# Altium schematic symbol library HUE.SchLib: 70 symbols
Pins are listed as number, name and electrical type; pins without a type are passive.

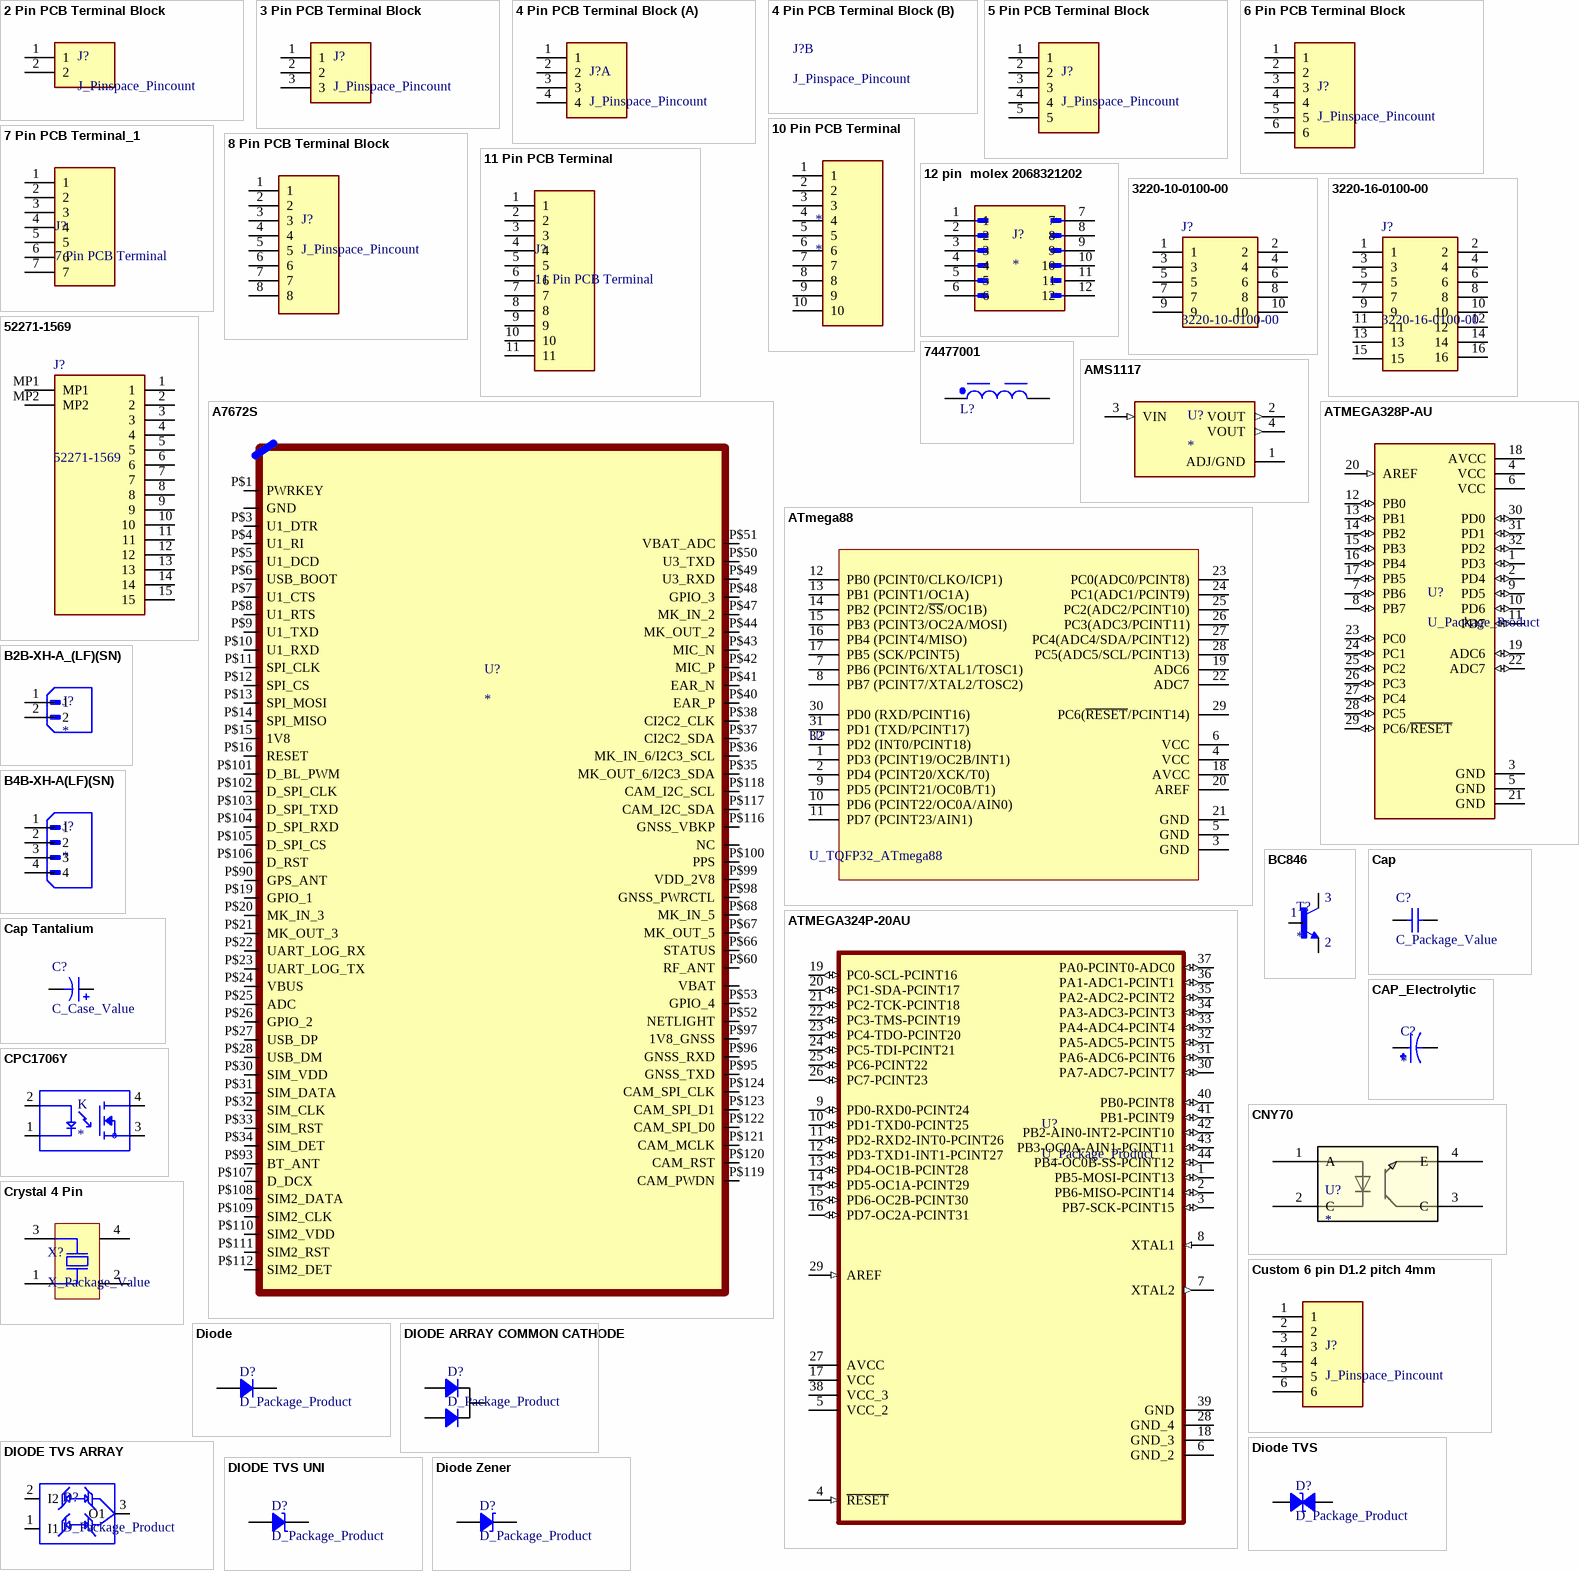
[diagram p0: symbols 2 Pin PCB Terminal Block to Diode Zener]

## 2 Pin PCB Terminal Block
designator J?, comment J_Pinspace_Pincount
MF: CUI Devices; MP: TBP02R1-381-02BE; CUI_purchase_URL: https://www.cuidevices.com/product/interconnect/connectors/terminal-blocks/tbp02r1-381-series?utm_source=snapeda.com&utm_medium=referral&utm_campaign=snapedaBOM; Purchase-URL: https://pricing.snapeda.com/search/part/TBP02R1-381-02BE/?ref=eda; Price: None; SnapEDA_Link: https://www.snapeda.com/parts/TBP02R1-381-02BE/CUI+Devices/view-part/?ref=snap; Check_prices: https://www.snapeda.com/parts/TBP02R1-381-02BE/CUI+Devices/view-part/?ref=eda; Package: None; Availability: In Stock; Value: *
footprint 2 Pin PCB TB 3.81
footprint 2 Pin PCB H 2.54
footprint 2 Pin PCB TB 5.08
footprint 2 Pin PCB STB 5.08
footprint DG142R-5.08-02P (10060000452)
pins: 1, 2

## 3 Pin PCB Terminal Block
designator J?, comment J_Pinspace_Pincount
MF: {'manufacturer': u'CUI'}; MP: TBP02R1-381-03BE; Price: None; Package: None; Value: *; Availability: Unavailable
footprint 3 Pin PCB TB 3.81
footprint 3 Pin PCB TB 5.08
footprint 3 Pin PCB STB 5.08
pins: 1, 2, 3

## 4 Pin PCB Terminal Block
designator J?, comment J_Pinspace_Pincount
MP: TBP02R1-381-04BE; Availability: Unavailable; Package: None; Price: None; Value: *
footprint 4 Pin PCB TB 3.81
footprint 4 Pin PCB H 2.54
footprint 4 Pin PCB TB 5.08
footprint 4 Pin PCB STB 5.08
part A pins: 1, 2, 3, 4

## 5 Pin PCB Terminal Block
designator J?, comment J_Pinspace_Pincount
MP: TBP02R1-381-05BE; Package: None; Price: None; Value: *; Availability: Unavailable
footprint 5 Pin PCB TB 3.81
footprint MOLEX_532610571
pins: 1, 2, 3, 4, 5

## 6 Pin PCB Terminal Block
designator J?, comment J_Pinspace_Pincount
MP: TBP02R1-381-06BE; Availability: Unavailable; Price: None; Value: *; Package: None
footprint 6 Pin PCB TB 3.81
footprint B6B-XH-A
pins: 1, 2, 3, 4, 5, 6

## 7 Pin PCB Terminal_1
designator J?, comment 7 Pin PCB Terminal
footprint 7 Pin KF2510 K2510 (KF2510 K2510)
pins: 1, 2, 3, 4, 5, 6, 7

## 8 Pin PCB Terminal Block
designator J?, comment J_Pinspace_Pincount
MP: TBP02R1-381-06BE; Availability: Unavailable; Price: None; Value: *; Package: None
footprint 8 PIN PCB TB 3.81
pins: 1, 2, 3, 4, 5, 6, 7, 8

## 10 Pin PCB Terminal
designator *
footprint 10 PIN PCB TB 3.81
pins: 1, 2, 3, 4, 5, 6, 7, 8, 9, 10

## 11 Pin PCB Terminal
designator J?
footprint 11 Pin KF2510 K2510
pins: 1, 2, 3, 4, 5, 6, 7, 8, 9, 10, 11

## 12 pin  molex 2068321202
designator J?
MP: 2068321202; Package: None; Value: *; Price: None; Availability: Unavailable
footprint MOLEX_2068321202
pins: 1, 2, 3, 4, 5, 6, 7, 8, 9, 10, 11, 12

## 3220-10-0100-00
designator J?
Conn Shrouded Header (4 Sides) HDR 10 POS 1.27mm Solder ST Thru-Hole; Manufacturer_Name: CNC Tech; Geometry.Height: 5.6mm; Arrow Part Number: 3220-10-0100-00; Arrow Price/Stock: https://www.arrow.com/en/products/3220-10-0100-00/cnc-tech-llc?region=nac; Manufacturer_Part_Number: 3220-10-0100-00; Datasheet Link: https://www.arrow.com/en/products/3220-10-0100-00/cnc-tech-llc?region=nac
footprint 322010010000
pins: 1, 2, 3, 4, 5, 6, 7, 8, 9, 10

## 3220-16-0100-00
designator J?
Conn Shrouded Header (4 Sides) HDR 16POS 1.27mm Solder ST Thru-Hole; Manufacturer_Name: CNC Tech; Manufacturer_Part_Number: 3220-10-0100-00; Geometry.Height: 5.6mm; Arrow Part Number: 3220-10-0100-00; Arrow Price/Stock: https://www.arrow.com/en/products/3220-10-0100-00/cnc-tech-llc?region=nac; Datasheet Link: https://www.arrow.com/en/products/3220-10-0100-00/cnc-tech-llc?region=nac
footprint 322016010000
pins: 1, 2, 3, 4, 5, 6, 7, 8, 9, 10, 11, 12, 13, 14, 15, 16

## 52271-1569
designator J?
FFC & FPC Connectors 1MM RA 15P SMT CONN ZIF AU BTM CON STYLE; Manufacturer_Name: Molex; Geometry.Height: 3mm; TME Electronic Components Part Number: *; TME Electronic Components Price/Stock: *; Manufacturer_Part_Number: 52271-1569; Datasheet Link: https://componentsearchengine.com/Datasheets/1/52271-1569.pdf
footprint 522711569
pins: 1, 2, 3, 4, 5, 6, 7, 8, 9, 10, 11, 12, 13, 14, 15, MP1, MP2

## 74477001
designator L?, comment 1.2uH, 13.5A  (value not drawn)
WE-PD SMT Power Inductor, size 1280, 1.2uH, 13.5A, 7mOhm; Manufacturer Part Number: 74477001; Manufacturer: Wurth Elektronik; Case/Size Code: 1280; DC Resistance: 4.6mOhm; Saturation Current: 21A; Self Resonant Frequency: 45MHz; Type: Standard; Category: Power Inductors; Match Code: WE-PD; ComponentLink1Description: Website Link; ComponentLink1URL: https://www.we-online.com/redexpert/article/74477001?ad; ComponentLink2Description: Datasheet Link; ComponentLink2URL: https://www.we-online.com/redexpert/spec/74477001?ad; Mount: Surface Mount; Operating Temperature Max: 125°C; Operating Temperature Min: -40°C; Packaging: Tape and Reel; Length: 12mm; Width: 12mm; Height: 8mm; DC Resistance Max: 7mOhm; Inductance: 1.2uH; Rated Current: 13.5A
simulation model 1280_74477001_1.2u
footprint WE-PD_1210 (SMT Shielded Power Inductor, 2-leads, body 12x12mm)
pins: 1, 2

## A7672S
designator U?
LTE Cat 1 Module On Module 10Mbps 700MHz/800MHz/900MHz/1700MHz/1800MHz/1900MHz/2100MHz 33dBm 3.4V to 4.2V -109dBm; MF: SIMCom; MP: A7672S; Check_prices: https://www.snapeda.com/parts/A7672S/SIMCom/view-part/?ref=eda; Value: *; Availability: Not in stock; Price: None; Package: Package; SnapEDA_Link: https://www.snapeda.com/parts/A7672S/SIMCom/view-part/?ref=snap
footprint A7672S
pins: P$1 PWRKEY (power), P$2 GND (power), P$3 U1_DTR (io), P$4 U1_RI (io), P$5 U1_DCD (io), P$6 USB_BOOT (io), P$7 U1_CTS (io), P$8 U1_RTS (io), P$9 U1_TXD (io), P$10 U1_RXD (io), P$11 SPI_CLK (io), P$12 SPI_CS (io), P$13 SPI_MOSI (io), P$14 SPI_MISO (io), P$15 1V8 (power), P$16 RESET (power), P$17 GND (power), P$18 GND (power), P$19 GPIO_1 (io), P$20 MK_IN_3 (io), P$21 MK_OUT_3 (io), P$22 UART_LOG_RX (io), P$23 UART_LOG_TX (io), P$24 VBUS (io), P$25 ADC (io), P$26 GPIO_2 (io), P$27 USB_DP (io), P$28 USB_DM (io), P$29 GND (power), P$30 SIM_VDD (io), P$31 SIM_DATA (io), P$32 SIM_CLK (io), P$33 SIM_RST (io), P$34 SIM_DET (io), P$35 MK_OUT_6/I2C3_SDA (io), P$36 MK_IN_6/I2C3_SCL (io), P$37 CI2C2_SDA (io), P$38 CI2C2_CLK (io), P$39 GND (power), P$40 EAR_P (io), P$41 EAR_N (io), P$42 MIC_P (io), P$43 MIC_N (io), P$44 MK_OUT_2 (io), P$45 GND (power), P$46 GND (power), P$47 MK_IN_2 (io), P$48 GPIO_3 (io), P$49 U3_RXD (io), P$50 U3_TXD (io), P$51 VBAT_ADC (io), P$52 NETLIGHT (io), P$53 GPIO_4 (io), P$54 GND (power), P$55 VBAT (io), P$56 VBAT (io), P$57 VBAT (io), P$58 GND (power), P$59 GND (power), P$60 RF_ANT (io), P$61 GND (power), P$62 GND (power), P$63 GND (power), P$64 GND (power), P$65 GND (power), P$66 STATUS (io), P$67 MK_OUT_5 (io), P$68 MK_IN_5 (io), P$69 GND (power), P$70 GND (power), P$71 GND (power), P$72 GND (power), P$73 GND (power), P$74 GND (power), P$75 GND (power), P$76 GND (power), P$77 GND (power), P$78 GND (power), P$79 GND (power), P$80 GND (power), P$81 GND (power), P$82 GND (power), P$83 GND (power), P$84 GND (power), P$85 GND (power), P$86 GND (power), P$87 GND (power), P$88 GND (power), P$89 GND (power), P$90 GPS_ANT (io), P$91 GND (power), P$92 GND (power), P$93 BT_ANT (io), P$94 GND (power), P$95 GNSS_TXD (io), P$96 GNSS_RXD (io), P$97 1V8_GNSS (io), P$98 GNSS_PWRCTL (io), P$99 VDD_2V8 (io), P$100 PPS (io), P$101 D_BL_PWM (io), P$102 D_SPI_CLK (io), P$103 D_SPI_TXD (io), P$104 D_SPI_RXD (io), P$105 D_SPI_CS (io), P$106 D_RST (io), P$107 D_DCX (io), P$108 SIM2_DATA (io), P$109 SIM2_CLK (io), P$110 SIM2_VDD (io), P$111 SIM2_RST (io), P$112 SIM2_DET (io), P$113 NC (io), P$114 NC (io), P$115 NC (io), P$116 GNSS_VBKP (io), P$117 CAM_I2C_SDA (io), P$118 CAM_I2C_SCL (io), P$119 CAM_PWDN (io), P$120 CAM_RST (io), P$121 CAM_MCLK (io), P$122 CAM_SPI_D0 (io), P$123 CAM_SPI_D1 (io), P$124 CAM_SPI_CLK (io)

## AMS1117
designator U?
1A LOW DROPOUT VOLTAGE REGULATOR SOT-223; MP: AMS1117; MF: Advanced Monolithic Systems; Price: None; Availability: Not in stock; Package: SOT-223 Seeed Technology; Value: *; SnapEDA_Link: https://www.snapeda.com/parts/AMS1117/Advanced+Monolithic+Systems/view-part/?ref=snap; Check_prices: https://www.snapeda.com/parts/AMS1117/Advanced+Monolithic+Systems/view-part/?ref=eda
footprint SOT223
pins: 1 ADJ/GND (power), 2 VOUT (out), 3 VIN (in), 4 VOUT (out)

## ATmega88
designator U?, comment U_TQFP32_ATmega88
8-bit  Microcontroller  with 8K  Bytes In-System  Programmable  Flash
footprint TQFP32
pins: 1 PD3 (PCINT19/OC2B/INT1), 2 PD4 (PCINT20/XCK/T0), 3 GND, 4 VCC, 5 GND, 6 VCC, 7 PB6 (PCINT6/XTAL1/TOSC1), 8 PB7 (PCINT7/XTAL2/TOSC2), 9 PD5 (PCINT21/OC0B/T1), 10 PD6 (PCINT22/OC0A/AIN0), 11 PD7 (PCINT23/AIN1), 12 PB0 (PCINT0/CLKO/ICP1), 13 PB1 (PCINT1/OC1A), 14 PB2 (PCINT2/~{SS}/OC1B), 15 PB3 (PCINT3/OC2A/MOSI), 16 PB4 (PCINT4/MISO), 17 PB5 (SCK/PCINT5), 18 AVCC, 19 ADC6, 20 AREF, 21 GND, 22 ADC7, 23 PC0(ADC0/PCINT8), 24 PC1(ADC1/PCINT9), 25 PC2(ADC2/PCINT10), 26 PC3(ADC3/PCINT11), 27 PC4(ADC4/SDA/PCINT12), 28 PC5(ADC5/SCL/PCINT13), 29 PC6(~{RESET}/PCINT14), 30 PD0 (RXD/PCINT16), 31 PD1 (TXD/PCINT17), 32 PD2 (INT0/PCINT18)

## ATMEGA324P-20AU
designator U?, comment U_Package_Product
AVR AVRÂ® ATmega Microcontroller IC 8-Bit 20MHz 32KB _16K x 16_ FLASH 44-TQFP _10x10_; MF: Microchip; MP: ATMEGA324P-20AU; Availability: Unavailable; Package: TQFP-44 Microchip; Price: None; SnapEDA_Link: https://www.snapeda.com/parts/ATMEGA324P-20AU/Microchip/view-part/696895/?ref=snap; Value: *
footprint TQFP44
pins: 1 PB5-MOSI-PCINT13 (io), 2 PB6-MISO-PCINT14 (io), 3 PB7-SCK-PCINT15 (io), 4 ~{RESET} (in), 5 VCC_2 (power), 6 GND_2, 7 XTAL2 (out), 8 XTAL1 (in), 9 PD0-RXD0-PCINT24 (io), 10 PD1-TXD0-PCINT25 (io), 11 PD2-RXD2-INT0-PCINT26 (io), 12 PD3-TXD1-INT1-PCINT27 (io), 13 PD4-OC1B-PCINT28 (io), 14 PD5-OC1A-PCINT29 (io), 15 PD6-OC2B-PCINT30 (io), 16 PD7-OC2A-PCINT31 (io), 17 VCC (power), 18 GND_3, 19 PC0-SCL-PCINT16 (io), 20 PC1-SDA-PCINT17 (io), 21 PC2-TCK-PCINT18 (io), 22 PC3-TMS-PCINT19 (io), 23 PC4-TDO-PCINT20 (io), 24 PC5-TDI-PCINT21 (io), 25 PC6-PCINT22 (io), 26 PC7-PCINT23 (io), 27 AVCC (power), 28 GND_4, 29 AREF (in), 30 PA7-ADC7-PCINT7 (io), 31 PA6-ADC6-PCINT6 (io), 32 PA5-ADC5-PCINT5 (io), 33 PA4-ADC4-PCINT4 (io), 34 PA3-ADC3-PCINT3 (io), 35 PA2-ADC2-PCINT2 (io), 36 PA1-ADC1-PCINT1 (io), 37 PA0-PCINT0-ADC0 (io), 38 VCC_3 (power), 39 GND, 40 PB0-PCINT8 (io), 41 PB1-PCINT9 (io), 42 PB2-AIN0-INT2-PCINT10 (io), 43 PB3-OC0A-AIN1-PCINT11 (io), 44 PB4-OC0B-SS-PCINT12 (io)

## ATMEGA328P-AU
designator U?, comment U_Package_Product
AVR AVRÂ® ATmega Microcontroller IC 8-Bit 20MHz 32KB (16K x 16) FLASH 32-TQFP (7x7); MP: ATMEGA328P-AU; MF: Microchip Technology; Value: *; SnapEDA_Link: https://www.snapeda.com/parts/ATMEGA328P-AU/Microchip/view-part/?ref=snap; Purchase-URL: https://pricing.snapeda.com/search/part/ATMEGA328P-AU/?ref=eda; Check_prices: https://www.snapeda.com/parts/ATMEGA328P-AU/Microchip/view-part/?ref=eda; Availability: In Stock; Price: None; Package: TQFP-32 Microchip
footprint TQFP32
pins: 1 PD3 (io), 2 PD4 (io), 3 GND (power), 4 VCC (power), 5 GND (power), 6 VCC (power), 7 PB6 (io), 8 PB7 (io), 9 PD5 (io), 10 PD6 (io), 11 PD7 (io), 12 PB0 (io), 13 PB1 (io), 14 PB2 (io), 15 PB3 (io), 16 PB4 (io), 17 PB5 (io), 18 AVCC (power), 19 ADC6 (io), 20 AREF (in), 21 GND (power), 22 ADC7 (io), 23 PC0 (io), 24 PC1 (io), 25 PC2 (io), 26 PC3 (io), 27 PC4 (io), 28 PC5 (io), 29 PC6/~{RESET} (io), 30 PD0 (io), 31 PD1 (io), 32 PD2 (io)

## B2B-XH-A_(LF)(SN)
designator J?
Connector Header Through Hole 2 position 0.098 (2.50mm); MF: JST Sales; MP: B2B-XH-A (LF)(SN); SnapEDA_Link: https://www.snapeda.com/parts/B2B-XH-A%20(LF)(SN)/JST+Sales+America+Inc./view-part/?ref=snap; Package: None; Value: *; Check_prices: https://www.snapeda.com/parts/B2B-XH-A%20(LF)(SN)/JST+Sales+America+Inc./view-part/?ref=eda
footprint JST_B2B-XH-A_(LF)(SN)
footprint B3B-XH-AMLFSN
pins: 1, 2

## B4B-XH-A(LF)(SN)
designator J?
Connector Header Through Hole 4 position 0.098 (2.50mm); MF: JST Sales; MP: B4B-XH-A(LF)(SN); SnapEDA_Link: https://www.snapeda.com/parts/B4B-XH-A(LF)(SN)/JST+Sales+America+Inc./view-part/?ref=snap; Package: None; Value: *; Check_prices: https://www.snapeda.com/parts/B4B-XH-A(LF)(SN)/JST+Sales+America+Inc./view-part/?ref=eda
footprint B4B-XH-A(LF)(SN)
pins: 1, 2, 3, 4

## BC846
designator T?
TRANSISTOR, NPN, 0.1A, 65V, SOT23; Transistor Polarity:NPN; Collector Emitter Voltage V(br)ceo:65V; Transition Frequency Typ ft:100MHz; Power Dissipation Pd:250mW; DC Collector Current:100mA; DC Current Gain hFE:110; Operating Temperature Min:-55Â°C; Operating Temperature Max:150Â°C; Transistor Case Style:SOT-23; No. of Pins:3; DC Current Gain Hfe Max:450; Operating Temperature Range:-55Â°C to +150Â°C; MP: BC846; MF: ON Semiconductor; Value: *; SnapEDA_Link: https://www.snapeda.com/parts/BC846/Onsemi/view-part/?ref=snap; Availability: In Stock; Purchase-URL: https://pricing.snapeda.com/search/part/BC846/?ref=eda; Package: SOT-23-3 Panasonic Electronic; Price: None; Check_prices: https://www.snapeda.com/parts/BC846/Onsemi/view-part/?ref=eda
footprint SOT23
pins: 1 B, 2 E, 3 C

## Cap
designator C?, comment C_Package_Value
Capacitor; Published: 8-Jun-2000; LatestRevisionDate: 17-Jul-2002; LatestRevisionNote: Re-released for DXP Platform.; Publisher: Altium Limited
footprint CAP 0603 (Ceramic Capacitor 0603 (1608))
footprint CAP 0805 (Ceramic Capacitor 1206  (3216))
footprint CAP 1206 (Ceramic Capacitor 1206  (3216))
footprint CAP 1210 (Ceramic Capacitor 1210 (3225))
pins: 1, 2
1 alternate drawing of the same symbol

## Cap Tantalium
designator C?, comment C_Case_Value
Capacitor Tantalium; Published: 8-Jun-2000; LatestRevisionDate: 17-Jul-2002; LatestRevisionNote: Re-released for DXP Platform.; Publisher: Altium Limited
footprint CAP 1411 TAN
footprint CAP 2312 TAN (Tantalum Capacitor 2312 (6032-28))
footprint CAP 2917 TAN (Tantalum Capacitor 2917 (7343-43))
pins: 1, 2
1 alternate drawing of the same symbol

## CAP_Electrolytic
designator C?
Electrolytic capacitor SMD 22 ÂµF 50 V 20 % (Ã˜) 6.3 mm Panasonic EEE-FK1H220P 1 pc(s); MP: EEEFK1H220P; Availability: No availability data; Package: RADIAL-2 Panasonic; Value: *; MF: Panasonic; Check_prices: https://www.snapeda.com/parts/EEEFK1H220P/Panasonic/view-part/2781915/?ref=eda; SnapEDA_Link: https://www.snapeda.com/parts/EEEFK1H220P/Panasonic/view-part/2781915/?ref=snap; Price: None
footprint CAP_6.3mm
pins: 1, 2

## CNY70
designator U?
For optoelectronic sensing and switching (non-contact operation), e.g. colour mark detection, encoder disc reading, control of model-making of iron-and car racing tracks. High photo-sensitivity.; MP: CNY 70; MF: Vishay Intertechnology; Availability: In Stock; Purchase-URL: https://pricing.snapeda.com/search/part/CNY 70/?ref=eda; SnapEDA_Link: https://www.snapeda.com/parts/CNY%2070/Vishay/view-part/?ref=snap; Price: None; Value: *; Check_prices: https://www.snapeda.com/parts/CNY%2070/Vishay/view-part/?ref=eda; Package: None
footprint CNY70
pins: 1 A, 2 C, 3 C, 4 E

## CPC1706Y
designator K
Solid State SPST-NO _1 Form A_ 8-SIP, 4 Leads; MP: CPC1706Y; MF: IXYS Integrated; Value: *; Package: SIP-4 IXYS; SnapEDA_Link: https://www.snapeda.com/parts/CPC1706Y/IXYS%20Integrated%20Circuits%20Division/view-part/681572/?ref=snap; Price: None; Availability: Unavailable
footprint RELAY_CPC1706Y
pins: 1, 2, 3, 4

## Crystal 4 Pin
designator X?, comment X_Package_Value
Crystal 4 Pin
footprint Crystal 3.2x2.5 (3.2mmx2.5mm 4 Pin)
footprint Crystal 2016
pins: 1 OSC1, 2 NC, 3 OSC2, 4 NC

## Custom 6 pin D1.2 pitch 4mm
designator J?, comment J_Pinspace_Pincount
Custom 6 pin Diameter 1.2mm pitch 4mm; MP: TBP02R1-381-06BE; Availability: Unavailable; Price: None; Value: *; Package: None
footprint 6 Pin Custom d1.2mm Pitch 4mm
pins: 1, 2, 3, 4, 5, 6

## Diode
designator D?, comment D_Package_Product
Rectifier Diode
footprint DO214AA SMB (Molded Diode, 2-Leads, Body 4.31x3.62mm, IPC Medium Density)
footprint DO214AB SMC (Molded Diode, 2-Leads, Body 6.85x5.90mm, IPC Medium Density)
footprint DO214AC SMA (Molded Diode, 2-Leads, Body 4.30x2.60mm, IPC Medium Density)
footprint POWERDI®123
footprint SOD123F (SODFL, 2-Leads, Body 1.60x3.50mm, IPC Medium Density)
footprint SOD-123 (SOD, 2-Leads, Body 1.55x3.70mm, IPC Medium Density)
footprint SOD-123W (SODFL, 2-Leads, Body 1.60x3.50mm, IPC Medium Density)
footprint SOD323 (SOD, 2-Leads, Body 1.25x2.50mm, IPC Medium Density)
footprint SOD323F (SODFL, 2-Leads, Body 1.25x2.50mm, IPC Medium Density)
footprint SOD-523 (Molded Diode, 2-Leads, Body 1.60x0.80mm, IPC Medium Density)
footprint SOD523F (SODFL, 2-Leads, Body 0.80x1.60mm, IPC Medium Density)
pins: 1, 2

## DIODE ARRAY COMMON CATHODE
designator D?, comment D_Package_Product
Rectifier Diode
pins: 1, 2, 3

## Diode TVS
designator D?, comment D_Package_Product
Zener Diode
footprint DO214AA SMB (Molded Diode, 2-Leads, Body 4.31x3.62mm, IPC Medium Density)
footprint DO214AC SMA (Molded Diode, 2-Leads, Body 4.30x2.60mm, IPC Medium Density)
footprint DO214AB SMC (Molded Diode, 2-Leads, Body 6.85x5.90mm, IPC Medium Density)
footprint SOD123F (SODFL, 2-Leads, Body 1.60x3.50mm, IPC Medium Density)
footprint SOD-123 (SOD, 2-Leads, Body 1.55x3.70mm, IPC Medium Density)
footprint SOD323 (SOD, 2-Leads, Body 1.25x2.50mm, IPC Medium Density)
footprint SOD323F (SODFL, 2-Leads, Body 1.25x2.50mm, IPC Medium Density)
footprint SOD-523 (Molded Diode, 2-Leads, Body 1.60x0.80mm, IPC Medium Density)
footprint SOD523F (SODFL, 2-Leads, Body 0.80x1.60mm, IPC Medium Density)
footprint POWERDI®123
footprint SOD-123W (SODFL, 2-Leads, Body 1.60x3.50mm, IPC Medium Density)
pins: 1, 2

## DIODE TVS ARRAY
designator D?, comment D_Package_Product
TVS Diode Array; MP: SM712; MF: Semtech; Price: None; SnapEDA_Link: https://www.snapeda.com/parts/SM712/Semtech/view-part/4219095/?ref=snap; Availability: Unavailable; Value: *; Package: SOT-23 Semtech
footprint SOT23
pins: 1 I1, 2 I2, 3 O1

## DIODE TVS UNI
designator D?, comment D_Package_Product
Rectifier Diode
footprint DO214AC SMA (Molded Diode, 2-Leads, Body 4.30x2.60mm, IPC Medium Density)
footprint DO214AA SMB (Molded Diode, 2-Leads, Body 4.31x3.62mm, IPC Medium Density)
footprint DO214AB SMC (Molded Diode, 2-Leads, Body 6.85x5.90mm, IPC Medium Density)
footprint POWERDI®123
footprint SOD-123 (SOD, 2-Leads, Body 1.55x3.70mm, IPC Medium Density)
footprint SOD-123W (SODFL, 2-Leads, Body 1.60x3.50mm, IPC Medium Density)
footprint SOD123F (SODFL, 2-Leads, Body 1.60x3.50mm, IPC Medium Density)
footprint SOD323 (SOD, 2-Leads, Body 1.25x2.50mm, IPC Medium Density)
footprint SOD323F (SODFL, 2-Leads, Body 1.25x2.50mm, IPC Medium Density)
footprint SOD-523 (Molded Diode, 2-Leads, Body 1.60x0.80mm, IPC Medium Density)
footprint SOD523F (SODFL, 2-Leads, Body 0.80x1.60mm, IPC Medium Density)
pins: 1, 2

## Diode Zener
designator D?, comment D_Package_Product
Zener Diode
footprint DO214AC SMA (Molded Diode, 2-Leads, Body 4.30x2.60mm, IPC Medium Density)
footprint DO214AA SMB (Molded Diode, 2-Leads, Body 4.31x3.62mm, IPC Medium Density)
footprint DO214AB SMC (Molded Diode, 2-Leads, Body 6.85x5.90mm, IPC Medium Density)
footprint POWERDI®123
footprint SOD-123 (SOD, 2-Leads, Body 1.55x3.70mm, IPC Medium Density)
footprint SOD-123W (SODFL, 2-Leads, Body 1.60x3.50mm, IPC Medium Density)
footprint SOD123F (SODFL, 2-Leads, Body 1.60x3.50mm, IPC Medium Density)
footprint SOD323 (SOD, 2-Leads, Body 1.25x2.50mm, IPC Medium Density)
footprint SOD323F (SODFL, 2-Leads, Body 1.25x2.50mm, IPC Medium Density)
footprint SOD-523 (Molded Diode, 2-Leads, Body 1.60x0.80mm, IPC Medium Density)
footprint SOD523F (SODFL, 2-Leads, Body 0.80x1.60mm, IPC Medium Density)
pins: 1, 2

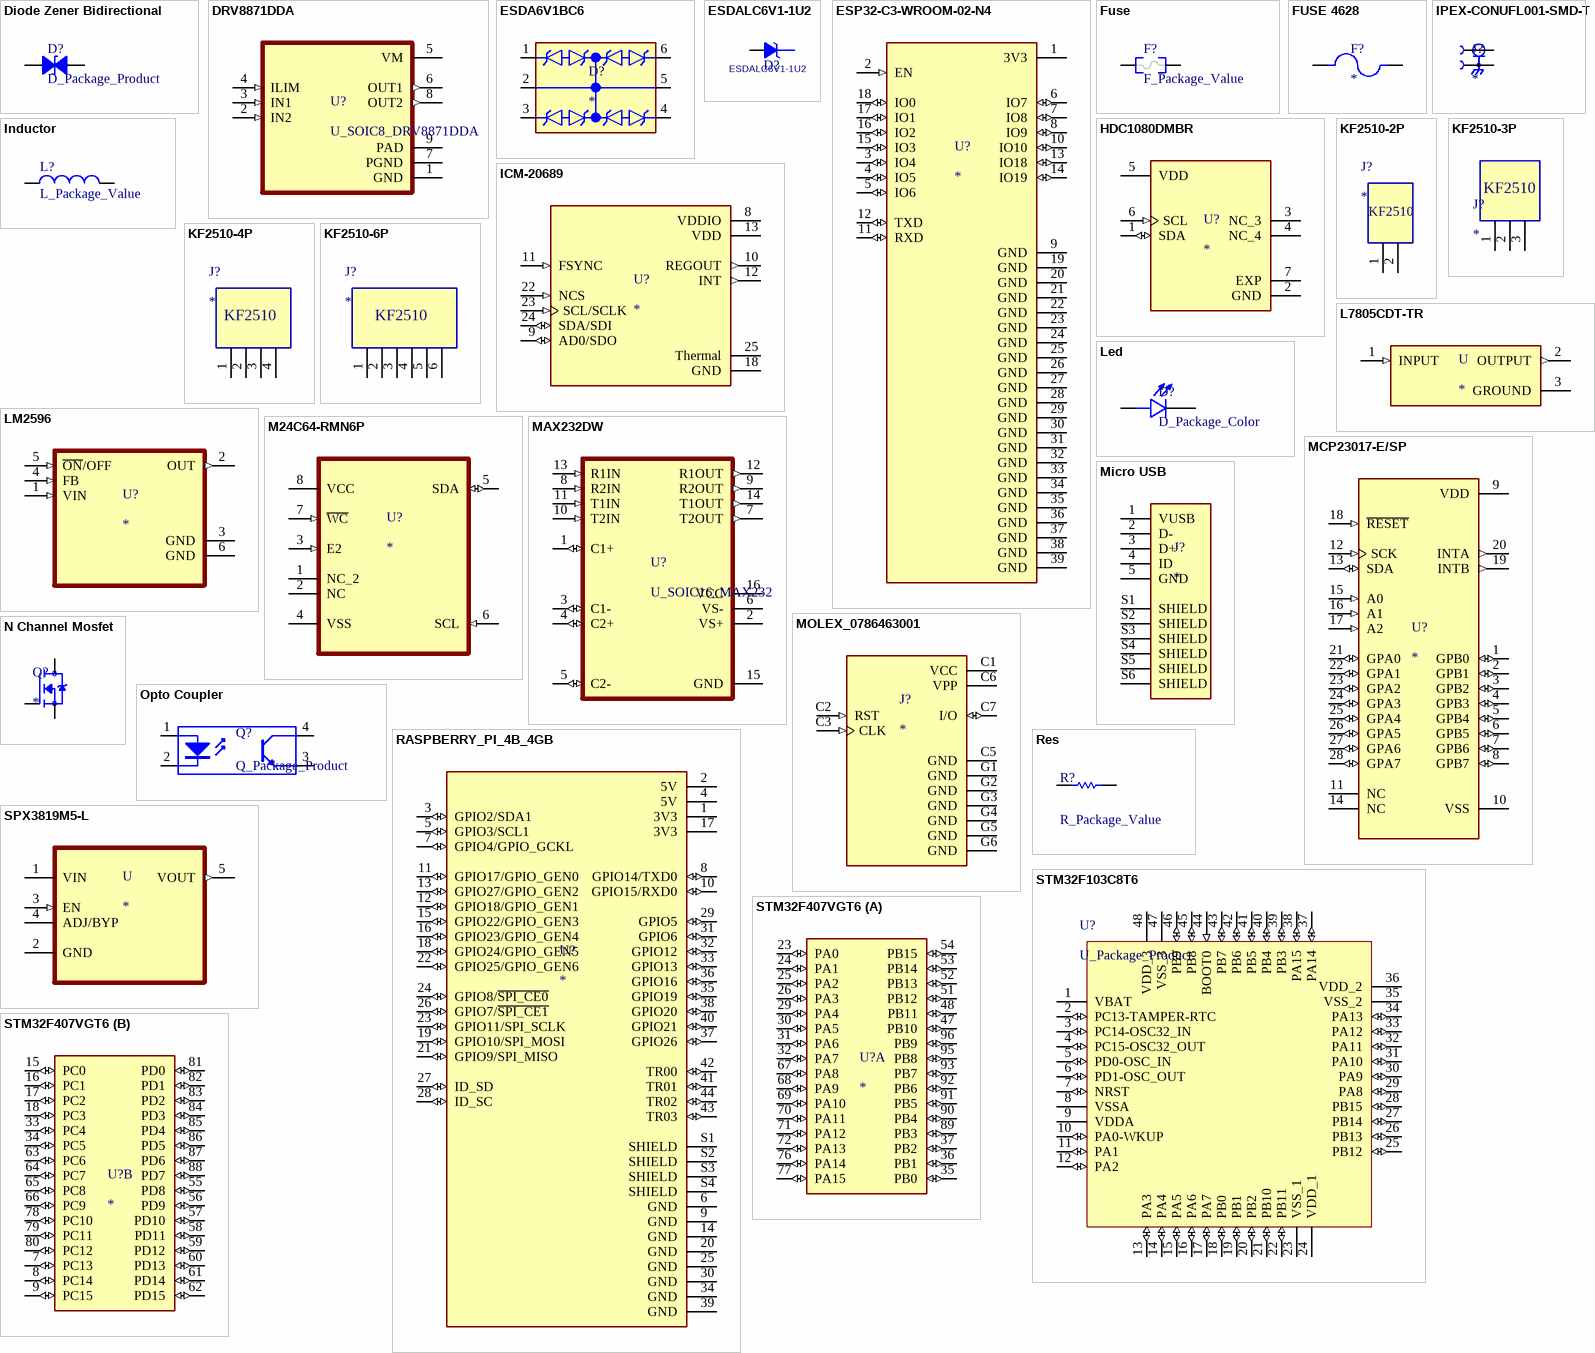
[diagram p1: symbols Diode Zener Bidirectional to STM32F407VGT6]

## Diode Zener Bidirectional
designator D?, comment D_Package_Product
Bidirectional Zener Diode
footprint DO214AC SMA (Molded Diode, 2-Leads, Body 4.30x2.60mm, IPC Medium Density)
footprint DO214AA SMB (Molded Diode, 2-Leads, Body 4.31x3.62mm, IPC Medium Density)
footprint DO214AB SMC (Molded Diode, 2-Leads, Body 6.85x5.90mm, IPC Medium Density)
footprint POWERDI®123
footprint SOD-123 (SOD, 2-Leads, Body 1.55x3.70mm, IPC Medium Density)
footprint SOD-123W (SODFL, 2-Leads, Body 1.60x3.50mm, IPC Medium Density)
footprint SOD123F (SODFL, 2-Leads, Body 1.60x3.50mm, IPC Medium Density)
footprint SOD323 (SOD, 2-Leads, Body 1.25x2.50mm, IPC Medium Density)
footprint SOD323F (SODFL, 2-Leads, Body 1.25x2.50mm, IPC Medium Density)
footprint SOD-523 (Molded Diode, 2-Leads, Body 1.60x0.80mm, IPC Medium Density)
footprint SOD523F (SODFL, 2-Leads, Body 0.80x1.60mm, IPC Medium Density)
pins: 1, 2

## DRV8871DDA
designator U?, comment U_SOIC8_DRV8871DDA
45-V, 3.6-A H-bridge motor driver with integrated current sensing 8-SO PowerPAD -40 to 125; MF: Texas Instruments; Mouser-Purchase-URL: https://snapeda.com/shop?store=Mouser&id=547750; SnapEDA_Link: https://www.snapeda.com/parts/DRV8871DDA/Texas%20Instruments/view-part/547750/?ref=snap; DigiKey-Purchase-URL: https://snapeda.com/shop?store=DigiKey&id=547750; Arrow_Electronics-Purchase-URL: https://snapeda.com/shop?store=Arrow+Electronics&id=547750; MP: DRV8871DDA; Texas_Instruments-Purchase-URL: https://snapeda.com/shop?store=Texas+Instruments&id=547750; Availability: Good; Price: None; Value: *; Package: HSOIC-8 Texas Instruments; BuyPart: https://www.snapeda.com/parts/DRV8871DDA/Texas%20Instruments/view-part/547750/?ref=eda
footprint SOIC8
pins: 1 GND (power), 2 IN2 (in), 3 IN1 (in), 4 ILIM (in), 5 VM (power), 6 OUT1 (out), 7 PGND (power), 8 OUT2 (out), 9 PAD (power)

## ESDA6V1BC6
designator D?
- Clamp - Ipp Tvs Diode Surface Mount SOT-23-6; MP: ESDA6V1BC6; MF: STMicroelectronics; Check_prices: https://www.snapeda.com/parts/ESDA6V1BC6/STMicroelectronics/view-part/?ref=eda; Price: None; Purchase-URL: https://pricing.snapeda.com/search/part/ESDA6V1BC6/?ref=eda; SnapEDA_Link: https://www.snapeda.com/parts/ESDA6V1BC6/STMicroelectronics/view-part/?ref=snap; Availability: In Stock; Package: SOT-23-6 STMicroelectronics; Value: *
footprint SOT23-6
pins: 1 C1, 2 CC1, 3 C2, 4 C3, 5 CC2, 6 C4

## ESDALC6V1-1U2
designator D?
footprint ST_ST0201
pins: 1 K, 2 A

## ESP32-C3-WROOM-02-N4
designator U?
WiFi Modules (802.11) (Engineering Samples) SMD module, ESP32-C3, 4MB SPI flash, PCB antenna, -40 C +85 C; MF: Espressif Systems; MP: ESP32-C3-WROOM-02-N4; Value: *; SnapEDA_Link: https://www.snapeda.com/parts/ESP32-C3-WROOM-02-N4/Espressif+Systems/view-part/?ref=snap; Purchase-URL: https://pricing.snapeda.com/search/part/ESP32-C3-WROOM-02-N4/?ref=eda; Availability: In Stock; Price: None; Package: Package; Check_prices: https://www.snapeda.com/parts/ESP32-C3-WROOM-02-N4/Espressif+Systems/view-part/?ref=eda
footprint ESP32-C3-WROOM-02-H4
pins: 1 3V3 (power), 2 EN (in), 3 IO4 (io), 4 IO5 (io), 5 IO6 (io), 6 IO7 (io), 7 IO8 (io), 8 IO9 (io), 9 GND (power), 10 IO10 (io), 11 RXD (io), 12 TXD (io), 13 IO18 (io), 14 IO19 (io), 15 IO3 (io), 16 IO2 (io), 17 IO1 (io), 18 IO0 (io), 19 GND (power), 20 GND (power), 21 GND (power), 22 GND (power), 23 GND (power), 24 GND (power), 25 GND (power), 26 GND (power), 27 GND (power), 28 GND (power), 29 GND (power), 30 GND (power), 31 GND (power), 32 GND (power), 33 GND (power), 34 GND (power), 35 GND (power), 36 GND (power), 37 GND (power), 38 GND (power), 39 GND (power)

## Fuse
designator F?, comment F_Package_Value
footprint FUSE 0402_1005 0.35MM (Chip Fuse 2A AC 32V DC, 2 Leads, Body 1.00x0.52mm)
footprint FUSE 0402_1005 0.51MM (Chip Fuse 1A AC 24V DC, 2 Leads, Body 1.00x0.51mm)
footprint FUSE 0603_1608 0.5MM (Chip Fuse 1.5A AC 5V DC, 2-Leads, Body 1.54x0.85mm)
footprint FUSE 0603_1608 0.8MM (Chip Fuse 1.5A AC 32V DC, 2-Leads, Body 1.60x0.80mm, IPC Medium Density)
footprint FUSE 1206_3216 0.6MM (Chip Fuse 1.5A AC 63V DC, 2-Leads, Body 3.10x1.55mm, IPC Medium Densitym)
footprint FUSE 1206_3216 0.9MM (Chip Fuse 200mA 125V AC 125V DC, 2-Leads, Body 3.18x1.52mm, IPC Medium Density)
pins: 1, 2

## FUSE 4628
designator F?
5mm Slim Line Fuse holder; MP: 4628; MF: Keystone; Check_prices: https://www.snapeda.com/parts/4628/Keystone/view-part/?ref=eda; Value: *; Availability: In Stock; Price: None; Package: None; SnapEDA_Link: https://www.snapeda.com/parts/4628/Keystone/view-part/?ref=snap; Purchase-URL: https://pricing.snapeda.com/search/part/4628/?ref=eda
footprint FUSE_4628
pins: 1, 2

## HDC1080DMBR
designator U?
2% RH low-power digital relative humidity sensor; MF: Texas Instruments; MP: HDC1080DMBR; SnapEDA_Link: https://www.snapeda.com/parts/HDC1080DMBR/Texas+Instruments/view-part/?ref=snap; Package: WSON-6 Texas Instruments; Value: *; Check_prices: https://www.snapeda.com/parts/HDC1080DMBR/Texas+Instruments/view-part/?ref=eda
footprint SON100P300X300X80-7N
pins: 1 SDA (io), 2 GND (power), 3 NC_3, 4 NC_4, 5 VDD (power), 6 SCL (in), 7 EXP

## ICM-20689
designator U?
6-Axis Drone/Vr/Iot Solution (Pi); MP: ICM-20689; Price: None; Value: *; Package: None; Availability: Unavailable
footprint 24-QFN
pins: 8 VDDIO (power), 9 AD0/SDO (io), 10 REGOUT (out), 11 FSYNC (in), 12 INT (out), 13 VDD (power), 18 GND (power), 22 NCS (in), 23 SCL/SCLK (in), 24 SDA/SDI (io), 25 Thermal (power)

## Inductor
designator L?, comment L_Package_Value
Inductor; PCB_Layout: Complies with manufacturer's recommendation.; Published: 26-Sep-2008; DatasheetVersion: Mar-2008; PackageVersion: Mar-2008; PackageReference: B82462G4; Publisher: Altium Limited; PackageDescription: SM Power Inductor; 2 Leads; Body 6.3 x 6.3 x 3.0 mm (LxWxH); ComponentLink1Description: Manufacturer Link; ComponentLink1URL: http://www.epcos.com/; ComponentLink2Description: Datasheet; ComponentLink2URL: http://www.epcos.com/inf/30/db/ind_2008/b82462g4.pdf
footprint Inductor 0603
footprint Inductor 0805 (Inductor 0805 (2012))
footprint Inductor 1206 (Inductor 0805 (2012))
footprint Inductor 2518
footprint INDUCTOR 4532
footprint Inductor 6060 (Inductor 6.0x6.0)
footprint Inductor 105105 (Inductor 10.5x10.5)
footprint Inductor 105105 6060 (Inductor 10.5x105 and 6.0x6.0)
pins: 1, 2

## IPEX-CONUFL001-SMD-T
designator J?
U.FL (UMCC) Connector Jack, Male Pin 50Ohm Surface Mount Solder; MP: CONUFL001-SMD-T; MF: Linx; Price: None; Package: None; Value: *; Check_prices: https://www.snapeda.com/parts/CONUFL001-SMD-T/Linx/view-part/?ref=eda; Availability: Unavailable; SnapEDA_Link: https://www.snapeda.com/parts/CONUFL001-SMD-T/Linx/view-part/?ref=snap
footprint IPEX_LINX_CONUFL001-SMD-T
pins: 1, 2, 3 2

## KF2510-2P
designator J?
footprint KF2510-2P
footprint KF2510-2P - 90 degree
pins: 1, 2
text: KF2510

## KF2510-3P
designator J?
footprint KF2510-3P
pins: 1, 2, 3
text: KF2510

## KF2510-4P
designator J?
footprint KF2510-4P
footprint KF2510-4P - 90 degree
pins: 1, 2, 3, 4
text: KF2510

## KF2510-6P
designator J?
footprint KF2510-6P
pins: 1, 2, 3, 4, 5, 6
text: KF2510

## L7805CDT-TR
designator U
Regulador de voltaje lineal IC 1 Salida 1.5A DPAK; MF: STMicroelectronics; MP: L7805CDT-TR; Package: TO-252 STMicroelectronics; Price: None; SnapEDA_Link: https://www.snapeda.com/parts/L7805CDT-TR/STMicroelectronics/view-part/423306/?ref=snap; Availability: Unavailable; Value: *
footprint DPAK
pins: 1 INPUT (in), 2 OUTPUT (out), 3 GROUND (power)

## Led
designator D?, comment D_Package_Color
Led; MP: SML-D12FWT86; MF: Rohm; Price: None; Availability: In Stock; Package: 0603 Rohm; SnapEDA_Link: https://www.snapeda.com/parts/SML-D12FWT86/Rohm/view-part/?ref=snap; Check_prices: https://www.snapeda.com/parts/SML-D12FWT86/Rohm/view-part/?ref=eda; Value: *; Purchase-URL: https://pricing.snapeda.com/search/part/SML-D12FWT86/?ref=eda
footprint Led 0603
footprint Led 0805
footprint Led 1206
pins: 1 A, 2 C

## LM2596
designator U?
MP: LM2596S-3.3/NOPB; Availability: Unavailable; Package: None; Value: *; Price: None
footprint TO 263
pins: 1 VIN (in), 2 OUT (out), 3 GND (power), 4 FB (in), 5 ~{ON}/OFF (in), 6 GND (power)

## M24C64-RMN6P
designator U?
EEPROM; MP: M24C64-RMN6P; Package: None; Price: None; Value: *; Availability: Unavailable
footprint SOIC8 - NO-EXP
pins: 1 NC_2, 2 NC, 3 E2 (in), 4 VSS, 5 SDA (io), 6 SCL (in), 7 ~{WC} (in), 8 VCC (power)

## MAX232DW
designator U?, comment U_SOIC16_MAX232
Dual EIA-232 driver and receiver 16-SOIC 0 to 70; MF: Texas Instruments; MP: MAX232DW; Price: None; SnapEDA_Link: https://www.snapeda.com/parts/MAX232DW/Texas%20Instruments/view-part/7702/?ref=snap; Purchase-URL: https://pricing.snapeda.com/search/part/MAX232DW/?ref=eda; Check_prices: https://www.snapeda.com/parts/MAX232DW/Texas%20Instruments/view-part/7702/?ref=eda; Value: *; Package: SOIC-16 Texas Instruments; Availability: Good
footprint SOIC16
pins: 1 C1+ (io), 2 VS+ (power), 3 C1- (io), 4 C2+ (io), 5 C2- (io), 6 VS- (power), 7 T2OUT (out), 8 R2IN (in), 9 R2OUT (out), 10 T2IN (in), 11 T1IN (in), 12 R1OUT (out), 13 R1IN (in), 14 T1OUT (out), 15 GND (power), 16 VCC (power)

## MCP23017-E/SP
designator U?
I/O Port Expander 16-Bit I2C I'face SDIP-28 | Microchip Technology Inc. MCP23017-E/SP; SnapEDA_Link: https://www.snapeda.com/parts/MCP23017-E/SP/Microchip/view-part/?ref=snap; Package: DIP-28 Microchip; Value: *; MF: Microchip; MP: MCP23017-E/SP; Check_prices: https://www.snapeda.com/parts/MCP23017-E/SP/Microchip/view-part/?ref=eda
footprint MCP23017-ESP
pins: 1 GPB0 (io), 2 GPB1 (io), 3 GPB2 (io), 4 GPB3 (io), 5 GPB4 (io), 6 GPB5 (io), 7 GPB6 (io), 8 GPB7 (io), 9 VDD (power), 10 VSS (power), 11 NC, 12 SCK (in), 13 SDA (io), 14 NC, 15 A0 (in), 16 A1 (in), 17 A2 (in), 18 ~{RESET} (in), 19 INTB (out), 20 INTA (out), 21 GPA0 (io), 22 GPA1 (io), 23 GPA2 (io), 24 GPA3 (io), 25 GPA4 (io), 26 GPA5 (io), 27 GPA6 (io), 28 GPA7 (io)

## Micro USB
designator J?
Micro USB 2.0, Input Output Connectors, B TYPE RECEPTACLE; MP: 10118193-0001LF; MF: Amphenol ICC; Value: *; Package: None; Check_prices: https://www.snapeda.com/parts/10118193-0001LF/Amphenol+FCI/view-part/?ref=eda; Purchase-URL: https://pricing.snapeda.com/search/part/10118193-0001LF/?ref=eda; Price: None; Availability: In Stock; SnapEDA_Link: https://www.snapeda.com/parts/10118193-0001LF/Amphenol+FCI/view-part/?ref=snap
footprint Micro USB
pins: 1 VUSB, 2 D-, 3 D+, 4 ID, 5 GND, S1 SHIELD, S2 SHIELD, S3 SHIELD, S4 SHIELD, S5 SHIELD, S6 SHIELD

## MOLEX_0786463001
designator J?
6 Position Card Connector Micro SIM Surface Mount, Right Angle Gold; MF: Molex; MP: 0786463001; Check_prices: https://www.snapeda.com/parts/0786463001/Molex/view-part/?ref=eda; SnapEDA_Link: https://www.snapeda.com/parts/0786463001/Molex/view-part/?ref=snap; Value: *; Purchase-URL: https://pricing.snapeda.com/search/part/0786463001/?ref=eda; Availability: In Stock; Price: None; Package: None
footprint MOLEX_0786463001
pins: C1 VCC (power), C2 RST (in), C3 CLK (in), C5 GND (power), C6 VPP (power), C7 I/O (io), G1 GND (power), G2 GND (power), G3 GND (power), G4 GND (power), G5 GND (power), G6 GND (power)

## N Channel Mosfet
designator Q?
RoHS Compliant | Low RDS(on) | Industry-leading quality | Dynamic dv/dt Rating | Fast Switching | Fully Avalanche Rated | 175C Operating Temperature | Logic Level; MP: IRLR2705PBF; MF: Infineon Technologies; Check_prices: https://www.snapeda.com/parts/IRLR2705PBF/Infineon+Technologies/view-part/?ref=eda; Value: *; Availability: In Stock; Price: None; Package: TO-252 Infineon; SnapEDA_Link: https://www.snapeda.com/parts/IRLR2705PBF/Infineon+Technologies/view-part/?ref=snap; Purchase-URL: https://pricing.snapeda.com/search/part/IRLR2705PBF/?ref=eda
footprint SOT23
pins: 1 G, 2 S, 3 D

## Opto Coupler
designator Q?, comment Q_Package_Product
Opto-Coupler
footprint 4-SMD
pins: 1 A "Anode", 2 K "Cathode", 3 E "Emitter", 4 C "Collector"

## RASPBERRY_PI_4B_4GB
designator U?
BCM2711 Raspberry Pi 4 Model B 4GB - ARMÂ® CortexÂ®-A72 MPU Embedded Evaluation Board; MP: RASPBERRY PI 4B/4GB; Price: None; MF: Raspberry Pi; Check_prices: https://www.snapeda.com/parts/RASPBERRY%20PI%204B/4GB/Raspberry+Pi/view-part/?ref=eda; Value: *; Purchase-URL: https://pricing.snapeda.com/search/part/RASPBERRY PI 4B/4GB/?ref=eda; Availability: In Stock; SnapEDA_Link: https://www.snapeda.com/parts/RASPBERRY%20PI%204B/4GB/Raspberry+Pi/view-part/?ref=snap; Package: None
footprint RASPBERRY_PI_4B_4GB
pins: 1 3V3 (power), 2 5V (power), 3 GPIO2/SDA1 (io), 4 5V (power), 5 GPIO3/SCL1 (io), 6 GND (power), 7 GPIO4/GPIO_GCKL (io), 8 GPIO14/TXD0 (io), 9 GND (power), 10 GPIO15/RXD0 (io), 11 GPIO17/GPIO_GEN0 (io), 12 GPIO18/GPIO_GEN1 (io), 13 GPIO27/GPIO_GEN2 (io), 14 GND (power), 15 GPIO22/GPIO_GEN3 (io), 16 GPIO23/GPIO_GEN4 (io), 17 3V3 (power), 18 GPIO24/GPIO_GEN5 (io), 19 GPIO10/SPI_MOSI (io), 20 GND (power), 21 GPIO9/SPI_MISO (io), 22 GPIO25/GPIO_GEN6 (io), 23 GPIO11/SPI_SCLK (io), 24 GPIO8/~{SPI_CE0} (io), 25 GND (power), 26 GPIO7/~{SPI_CE1} (io), 27 ID_SD (io), 28 ID_SC (io), 29 GPIO5 (io), 30 GND (power), 31 GPIO6 (io), 32 GPIO12 (io), 33 GPIO13 (io), 34 GND (power), 35 GPIO19 (io), 36 GPIO16 (io), 37 GPIO26 (io), 38 GPIO20 (io), 39 GND (power), 40 GPIO21 (io), 41 TR01 (io), 42 TR00 (io), 43 TR03 (io), 44 TR02 (io), S1 SHIELD (power), S2 SHIELD (power), S3 SHIELD (power), S4 SHIELD (power)

## Res
designator R?, comment R_Package_Value
Resistor; Published: 8-Jun-2000; LatestRevisionDate: 17-Jul-2002; LatestRevisionNote: Re-released for DXP Platform.; Publisher: Altium Limited
footprint RES 0402 (Resistor 0402)
footprint RES 0603
footprint RES 0805
footprint RES 1206 (Resistor 1206)
footprint RES 1210
footprint RES 2010
footprint RES 2512
footprint RES 3920
pins: 1, 2
1 alternate drawing of the same symbol

## SPX3819M5-L
designator U
Linear Voltage Regulator IC 1 Output 500mA SOT-23-5; MP: SPX3819M5-L/TR; MF: MaxLinear, Inc.; Package: SOT-23-5 Exar; SnapEDA_Link: https://www.snapeda.com/parts/SPX3819M5-L/TR/MaxLinear,%20Inc./view-part/35772/?ref=snap; Digi-Key_Purchase_URL: https://www.digikey.com/product-detail/en/maxlinear-inc/SPX3819M5-L-TR/1016-1871-1-ND/3586588?utm_source=snapeda&utm_medium=aggregator&utm_campaign=symbol; Value: *; Digi-Key_Part_Number: 1016-1871-1-ND
footprint SOT23-5
pins: 1 VIN (power), 2 GND, 3 EN (in), 4 ADJ/BYP, 5 VOUT (out)

## STM32F103C8T6
designator U?, comment U_Package_Product
ARM Cortex-M3 32-bit MCU, 64 KB Flash, 20 KB Internal RAM, 37 I/Os, 48-pin LQFP, -40 to 85 degC, Tray; PartNumber: STM32F103C8T6; A/D Converter: 2x12-bit (10 Channel); FLASH Size (Prog) (kB): 64; I/Os (High Current): 37; Internal RAM Size (kB): 20; Operating Frequency(F) (Processor speed) (MHz): 72; Supply Voltage(Vcc) min (V): 2; DatasheetVersion: Rev. 16; PackageVersion: Rev. 6, 06/2013; PackageReference: LQFP48; PackageDescription: 48-Pin Low Profile Quad Flat Package, 7 x 7 mm Body, 0.5 mm Pitch; Supplier 1: Digi-Key; Supplier Part Number 1: 497-6063-ND; Supplier 2: Farnell; Supplier Part Number 2: 1447637; Supplier 3: Newark; Supplier Part Number 3: 59M2182; Supplier 4: Newark; Supplier Part Number 4: 57P1222; Supplier 5: Mouser; Supplier Part Number 5: 511-STM32F103C8T6; Core: ARM Cortex-M3; Packing: Tray; Mounting Technology: Surface Mount; ComponentLink1Description: Manufacturer URL; ComponentLink1URL: http://www.st.com/web/en/home.html; ComponentLink2Description: Datasheet; ComponentLink2URL: http://www.st.com/st-web-ui/static/active/en/resource/technical/document/datasheet/CD00161566.pdf; ComponentLink3Description: Package Specification; ComponentLink3URL: http://www.st.com/st-web-ui/static/active/en/resource/technical/document/datasheet/DM00058181.pdf
footprint LQFP48 (QFP, 48-Leads, Body 7x7mm, Pitch 0.5mm, IPC High Density)
pins: 1 VBAT (power), 2 PC13-TAMPER-RTC (io) "PC13-TAMPER-RTC/PC13/TAMPER-RTC", 3 PC14-OSC32_IN (io) "PC14-OSC32_IN/PC14/OSC32_IN", 4 PC15-OSC32_OUT (io) "PC15-OSC32_OUT/PC15/OSC32_OUT", 5 PD0-OSC_IN (io) "PD0/OSC_IN", 6 PD1-OSC_OUT (io) "PD1/OSC_OUT", 7 NRST (io), 8 VSSA (power), 9 VDDA (power), 10 PA0-WKUP (io) "PA0-WKUP/PA0/WKUP/USART2_CTS/ADC12_IN0/TIM2_CH1_ETR", 11 PA1 (io) "PA1/USART2_RTS/ADC12_IN1/TIM2_CH2", 12 PA2 (io) "PA2/USART2_TX/ADC12_IN2/TIM2_CH3", 13 PA3 (io) "PA3/USART2_RX/ADC12_IN3/TIM2_CH4", 14 PA4 (io) "PA4/SPI1_NSS/USART2_CK/ADC12_IN4", 15 PA5 (io) "PA5/SPI1_SCK/ADC12_IN5", 16 PA6 (io) "PA6/SPI1_MISO/ADC12_IN6/TIM3_CH1/TIM1_BKIN", 17 PA7 (io) "PA7/SPI1_MOSI/ADC12_IN7/TIM3_CH2/TIM1_CH1N", 18 PB0 (io) "PB0/ADC12_IN8/TIM3_CH3/TIM1_CH2N", 19 PB1 (io) "PB1/ADC12_IN9/TIM3_CH4/TIM1_CH3N", 20 PB2 (io) "PB2/BOOT1", 21 PB10 (io) "PB10/I2C2_SCL/USART3_TX/TIM2_CH3", 22 PB11 (io) "PB11/I2C2_SDA/USART3_RX/TIM2_CH4", 23 VSS_1 (power), 24 VDD_1 (power), 25 PB12 (io) "PB12/SPI2_NSS/I2C2_SMBAl/USART3_CK/TIM1_BKIN", 26 PB13 (io) "PB13/SPI2_SCK/USART3_CTS/TIM1_CH1N", 27 PB14 (io) "PB14/SPI2_MISO/USART3_RTS/TIM1_CH2N", 28 PB15 (io) "PB15/SPI2_MOSI/TIM1_CH3N", 29 PA8 (io) "PA8/USART1_CK/TIM1_CH1/MCO", 30 PA9 (io) "PA9/USART1_TX/TIM1_CH2", 31 PA10 (io) "PA10/USART1_RX/TIM1_CH3", 32 PA11 (io) "PA11/USART1_CTS/CANRX/USBDM/TIM1_CH4", 33 PA12 (io) "PA12/USART1_RTS/CANTX/USBDP/TIM1_ETR", 34 PA13 (io) "PA13/JTMS/SWDIO", 35 VSS_2 (power), 36 VDD_2 (power), 37 PA14 (io) "PA14/JTCK/SWCLK", 38 PA15 (io) "PA15/JTDI/TIM2_CH1_ETR/SPI1_NSS", 39 PB3 (io) "PB3/JTDO/TIM2_CH2/TRACESWO/SPI1_SCK", 40 PB4 (io) "PB4/NJTRST/TIM3_CH1/SPI1_MISO", 41 PB5 (io) "PB5/I2C1_SMBAI/TIM3_CH2/SPI1_MOSI", 42 PB6 (io) "PB6/I2C1_SCL/TIM4_CH1/USART1_TX", 43 PB7 (io) "PB7/I2C1_SDA/TIM4_CH2/USART1_RX", 44 BOOT0 (in), 45 PB8 (io) "PB8/TIM4_CH3/I2C1_SCL/CANRX", 46 PB9 (io) "PB9/TIM4_CH4/I2C1_SDA/CANTX", 47 VSS_3 (power), 48 VDD_3 (power)

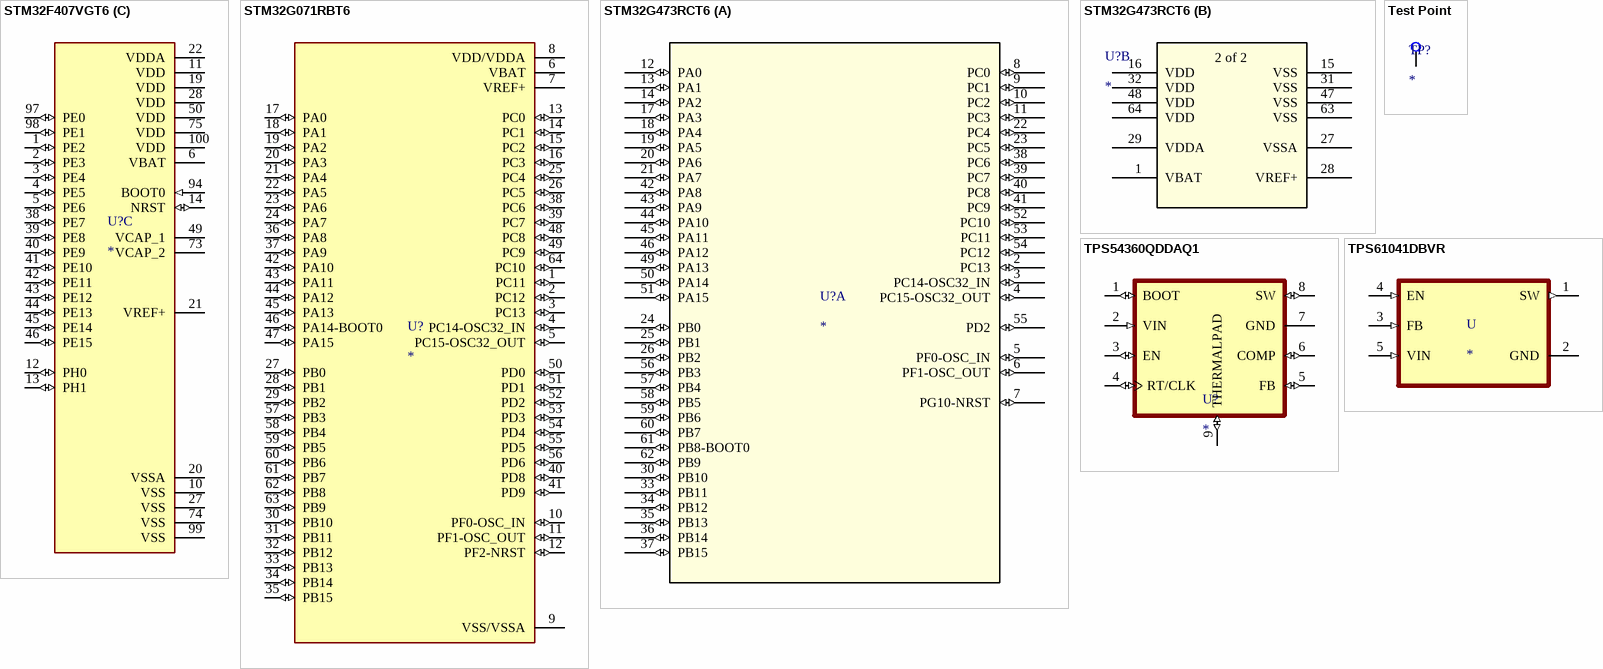
[diagram p2: symbols STM32F407VGT6 to TPS61041DBVR]

## STM32F407VGT6
designator U?
STM32 Series 32-bit 1 MB Flash 192 kB RAM ARM Based Microcontroller - LQFP-100; MP: STM32F407VGT6; Price: None; Value: *; Package: None; Availability: Unavailable
footprint LQFP100
part A pins: 23 PA0 (io), 24 PA1 (io), 25 PA2 (io), 26 PA3 (io), 29 PA4 (io), 30 PA5 (io), 31 PA6 (io), 32 PA7 (io), 35 PB0 (io), 36 PB1 (io), 37 PB2 (io), 47 PB10 (io), 48 PB11 (io), 51 PB12 (io), 52 PB13 (io), 53 PB14 (io), 54 PB15 (io), 67 PA8 (io), 68 PA9 (io), 69 PA10 (io), 70 PA11 (io), 71 PA12 (io), 72 PA13 (io), 76 PA14 (io), 77 PA15 (io), 89 PB3 (io), 90 PB4 (io), 91 PB5 (io), 92 PB6 (io), 93 PB7 (io), 95 PB8 (io), 96 PB9 (io)
part B pins: 7 PC13 (io), 8 PC14 (io), 9 PC15 (io), 15 PC0 (io), 16 PC1 (io), 17 PC2 (io), 18 PC3 (io), 33 PC4 (io), 34 PC5 (io), 55 PD8 (io), 56 PD9 (io), 57 PD10 (io), 58 PD11 (io), 59 PD12 (io), 60 PD13 (io), 61 PD14 (io), 62 PD15 (io), 63 PC6 (io), 64 PC7 (io), 65 PC8 (io), 66 PC9 (io), 78 PC10 (io), 79 PC11 (io), 80 PC12 (io), 81 PD0 (io), 82 PD1 (io), 83 PD2 (io), 84 PD3 (io), 85 PD4 (io), 86 PD5 (io), 87 PD6 (io), 88 PD7 (io)
part C pins: 1 PE2 (io), 2 PE3 (io), 3 PE4 (io), 4 PE5 (io), 5 PE6 (io), 6 VBAT (power), 10 VSS (power), 11 VDD (power), 12 PH0 (io), 13 PH1 (io), 14 NRST (io), 19 VDD (power), 20 VSSA (power), 21 VREF+ (power), 22 VDDA (power), 27 VSS (power), 28 VDD (power), 38 PE7 (io), 39 PE8 (io), 40 PE9 (io), 41 PE10 (io), 42 PE11 (io), 43 PE12 (io), 44 PE13 (io), 45 PE14 (io), 46 PE15 (io), 49 VCAP_1, 50 VDD (power), 73 VCAP_2, 74 VSS (power), 75 VDD (power), 94 BOOT0 (in), 97 PE0 (io), 98 PE1 (io), 99 VSS (power), 100 VDD (power)

## STM32G071RBT6
designator U?
ARMÂ® CortexÂ®-M0+ STM32G0 Microcontroller IC 32-Bit Single-Core 64MHz 128KB (128K x 8) FLASH 64-LQFP (10x10); MP: STM32G071RBT6; MF: STMicroelectronics; Check_prices: https://www.snapeda.com/parts/STM32G071RBT6/STMicroelectronics/view-part/?ref=eda; Value: *; Availability: In Stock; Price: None; Package: LQFP-64 STMicroelectronics; SnapEDA_Link: https://www.snapeda.com/parts/STM32G071RBT6/STMicroelectronics/view-part/?ref=snap; Purchase-URL: https://pricing.snapeda.com/search/part/STM32G071RBT6/?ref=eda
footprint LQFP64 (LQFP64 - 64-pin, 10 x 10 mm low-profile quad flat  package)
pins: 1 PC11 (io), 2 PC12 (io), 3 PC13 (io), 4 PC14-OSC32_IN (io), 5 PC15-OSC32_OUT (io), 6 VBAT (power), 7 VREF+ (power), 8 VDD/VDDA (power), 9 VSS/VSSA (power), 10 PF0-OSC_IN (io), 11 PF1-OSC_OUT (io), 12 PF2-NRST (io), 13 PC0 (io), 14 PC1 (io), 15 PC2 (io), 16 PC3 (io), 17 PA0 (io), 18 PA1 (io), 19 PA2 (io), 20 PA3 (io), 21 PA4 (io), 22 PA5 (io), 23 PA6 (io), 24 PA7 (io), 25 PC4 (io), 26 PC5 (io), 27 PB0 (io), 28 PB1 (io), 29 PB2 (io), 30 PB10 (io), 31 PB11 (io), 32 PB12 (io), 33 PB13 (io), 34 PB14 (io), 35 PB15 (io), 36 PA8 (io), 37 PA9 (io), 38 PC6 (io), 39 PC7 (io), 40 PD8 (io), 41 PD9 (io), 42 PA10 (io), 43 PA11 (io), 44 PA12 (io), 45 PA13 (io), 46 PA14-BOOT0 (io), 47 PA15 (io), 48 PC8 (io), 49 PC9 (io), 50 PD0 (io), 51 PD1 (io), 52 PD2 (io), 53 PD3 (io), 54 PD4 (io), 55 PD5 (io), 56 PD6 (io), 57 PB3 (io), 58 PB4 (io), 59 PB5 (io), 60 PB6 (io), 61 PB7 (io), 62 PB8 (io), 63 PB9 (io), 64 PC10 (io)

## STM32G473RCT6
designator U?
No Description Available; Mfr_Name: STMicroelectronics; RefDes: RefDes; Type: Type
footprint LQFP64-10x10mm
footprint LQFP64 (LQFP64 - 64-pin, 10 x 10 mm low-profile quad flat  package)
part A pins: 2 PC13 (io), 3 PC14-OSC32_IN (io), 4 PC15-OSC32_OUT (io), 5 PF0-OSC_IN (io), 6 PF1-OSC_OUT (io), 7 PG10-NRST (io), 8 PC0 (io), 9 PC1 (io), 10 PC2 (io), 11 PC3 (io), 12 PA0 (io), 13 PA1 (io), 14 PA2 (io), 17 PA3 (io), 18 PA4 (io), 19 PA5 (io), 20 PA6 (io), 21 PA7 (io), 22 PC4 (io), 23 PC5 (io), 24 PB0 (io), 25 PB1 (io), 26 PB2 (io), 30 PB10 (io), 33 PB11 (io), 34 PB12 (io), 35 PB13 (io), 36 PB14 (io), 37 PB15 (io), 38 PC6 (io), 39 PC7 (io), 40 PC8 (io), 41 PC9 (io), 42 PA8 (io), 43 PA9 (io), 44 PA10 (io), 45 PA11 (io), 46 PA12 (io), 49 PA13 (io), 50 PA14 (io), 51 PA15 (io), 52 PC10 (io), 53 PC11 (io), 54 PC12 (io), 55 PD2 (io), 56 PB3 (io), 57 PB4 (io), 58 PB5 (io), 59 PB6 (io), 60 PB7 (io), 61 PB8-BOOT0 (io), 62 PB9 (io)
part B pins: 1 VBAT (power), 15 VSS (power), 16 VDD (power), 27 VSSA (power), 28 VREF+ (power), 29 VDDA (power), 31 VSS (power), 32 VDD (power), 47 VSS (power), 48 VDD (power), 63 VSS (power), 64 VDD (power)
part B text: 2 of 2

## Test Point
designator TP?
footprint TestPoint_2.54mm
pins: 1 TP

## TPS54360QDDAQ1
designator U?
MP: TPS54360QDDAQ1; Package: None; Price: None; Value: *; Availability: Unavailable
footprint SOIC8
pins: 1 BOOT (io), 2 VIN (in), 3 EN (io), 4 RT/CLK (io), 5 FB (io), 6 COMP (io), 7 GND (power), 8 SW (io), 9 THERMALPAD (io)

## TPS61041DBVR
designator U
28-V, 250-mA Switch Boost Converter in SOT-23 for LCD and White LED Applications 5-SOT-23 -40 to 85; MF: Texas Instruments; MP: TPS61041DBVR; Arrow_Electronics-Purchase-URL: https://snapeda.com/shop?store=Arrow+Electronics&id=229110; Texas_Instruments-Purchase-URL: https://snapeda.com/shop?store=Texas+Instruments&id=229110; SnapEDA_Link: https://www.snapeda.com/parts/TPS61041DBVR/Texas%20Instruments/view-part/229110/?ref=snap; Value: *; Package: SOT-23-5 Texas Instruments; DigiKey-Purchase-URL: https://snapeda.com/shop?store=DigiKey&id=229110; Availability: Good; Price: None; Mouser-Purchase-URL: https://snapeda.com/shop?store=Mouser&id=229110; BuyPart: https://www.snapeda.com/parts/TPS61041DBVR/Texas%20Instruments/view-part/229110/?ref=eda
footprint SOT23-5
pins: 1 SW (out), 2 GND (power), 3 FB (in), 4 EN (in), 5 VIN (in)